# EAGLE library part 249ЛП8 (library others)
АДБК. 431270.030 ТУ 249ЛП8 - двухканальный сверхбыстродействующий инвертор (более 10Мб/с) с открытым коллектором в 16-выводном металлокерамическом корпусе 402.16-23.01 с напряженим изоляции 1500 В Производитель: ОАО "Протон", г. Орёл. Технические условия: АДБК. 431270.030 ТУ
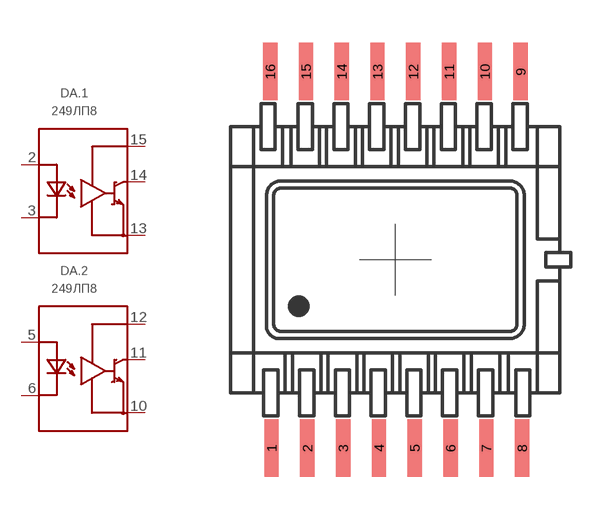
[diagram p0: symbol with the pads of 402.16-23; footprint 402.16-23]

Designator prefix DA; gates .1=249ЛП8 .2=249ЛП8

## 249ЛП8  [402.16-23]
2  .1:ANOD
3  .1:KATOD
5  .2:ANOD
6  .2:KATOD
10  .2:GND  pwr
11  .2:OUT
12  .2:VCC  pwr
13  .1:GND  pwr
14  .1:OUT
15  .1:VCC  pwr

## Footprint 402.16-23 (pad centres in mm)
smd 0.5 x 2: 1 -4.325,-6.575; 2 -3.075,-6.575; 3 -1.825,-6.575; 4 -0.575,-6.575; 5 0.675,-6.575; 6 1.925,-6.575; 7 3.175,-6.575; 8 4.425,-6.575; 9 4.375,6.575; 10 3.125,6.575; 11 1.875,6.575; 12 0.625,6.575; 13 -0.625,6.575; 14 -1.875,6.575; 15 -3.125,6.575; 16 -4.375,6.575